# EAGLE library part K1 (library CAN_BUS_Interface_v2)
Isolierte-BNC-Buchse, 90° ( BNC-90)
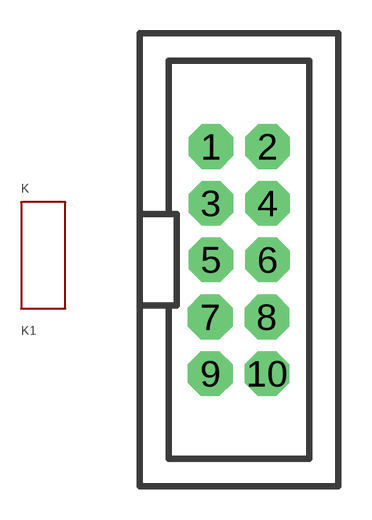
[diagram p1: symbol with the pads of K1; footprint K1]

Designator prefix K

## K1  [K1]
1  1  pas
2  2  pas
3  3  pas
4  4  pas
5  5  pas
6  6  pas
7  7  pas
8  8  pas
9  9  pas
10  10  pas

## Footprint K1 (pad centres in mm)
HD10-S
drill 1 pad 2 octagon: 1 -1.241,5.109; 2 1.299,5.109; 3 -1.241,2.569; 4 1.299,2.569; 5 -1.241,0.029; 6 1.299,0.029; 7 -1.27,-2.54; 8 1.27,-2.54; 9 -1.27,-5.08; 10 1.27,-5.08